# EAGLE library part JUMPER6M (library !stavebnice03)
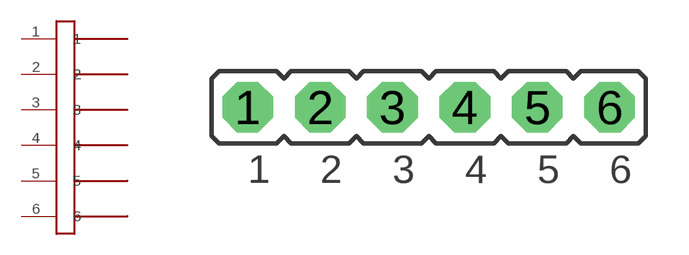
[diagram p1: symbol with the pads of JUMPER6M; footprint JUMPER6M]

Designator prefix -

## JUMPER6M  [JUMPER6M]
1  1
2  2
3  3
4  4
5  5
6  6

## Footprint JUMPER6M (pad centres in mm)
drill 0.914 pad 1.778 octagon: 1 -6.35,0; 2 -3.81,0; 3 -1.27,0; 4 1.27,0; 5 3.81,0; 6 6.35,0